# Altium integrated library 4v3_zener_BZT52C4V3-7-F.IntLib: 1 symbol
Pins are listed as number, name and electrical type; pins without a type are passive.

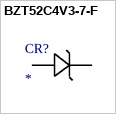
[diagram p0: symbol BZT52C4V3-7-F]

## BZT52C4V3-7-F
designator CR?
Imported; Manufacturer_Part_Number: BZT52C4V3-7-F; Vendor: Diodes Inc; Built_By: EMA_UL_Team; Type: DEV; C: Copyright (C) 2015 Accelerated Designs. All rights reserved; RefDes: RefDes; Value: Value
footprint SOD123
pins: 1, 2